# EAGLE library part B6B-PH-K-S_6 (library DRA818)
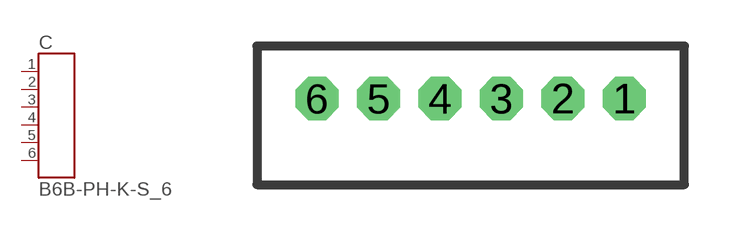
[diagram p0: symbol with the pads of B6B-PH-K-S_6; footprint B6B-PH-K-S_6]

Designator prefix C

## B6B-PH-K-S_6  [B6B-PH-K-S_6]
1  2  pas
2  3  pas
3  1  pas
4  2  pas
5  3  pas
6  1  pas

## Footprint B6B-PH-K-S_6 (pad centres in mm)
drill 0.8 pad 1.4 octagon: 1 5,0.55; 2 3,0.55; 3 1,0.55; 4 -1,0.55; 5 -3,0.55; 6 -5,0.55